# Altium footprint library CON5_2.54_RT_SMD_FEM.PcbLib: 1 footprints
Each footprint in its own frame and in the unit in brackets; x right, y up, seen from the top. Pads: shape width x height; smd on the part's side, far side on the other; paste and mask are expansions set on the pad; w line width, h text height; cw(c..) or ccw(c..) is an arc to the next point about the centre after c.
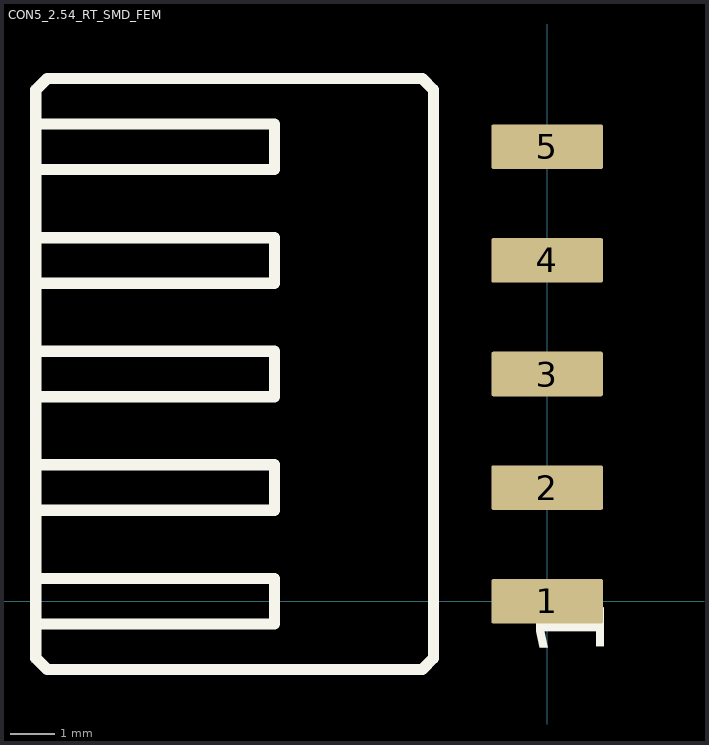
[diagram p0: the footprint, top view; thin cyan lines are the x and y axes]

## CON5_2.54_RT_SMD_FEM [mm]
height 2.5
pads (5):
  rrect10% 2.5x1 smd: 1(0,0) 2(0,2.54) 3(0,5.08) 4(0,7.62) 5(0,10.16)
Top Overlay:
  lines w0.254: -11.43,-0.508 -6.096,-0.508 -6.096,0.508 -11.43,0.508 ; -11.43,2.032 -6.096,2.032 -6.096,3.048 -11.43,3.048 ; -11.43,4.572 -6.096,4.572 -6.096,5.588 -11.43,5.588 ; -11.43,7.112 -6.096,7.112 -6.096,8.128 -11.43,8.128 ; -11.43,9.652 -6.096,9.652 -6.096,10.668 -11.43,10.668 ; -11.43,-1.27 -11.176,-1.524 -2.794,-1.524 -2.54,-1.27 -2.54,11.43 -2.794,11.684 -11.176,11.684 -11.43,11.43 -11.43,-1.27
  text "1" at 1.27,-1.27 h1.52
3D body: height 2.5, standoff 0, extent -11.362,-1.545 0.588,11.705